# Altium schematic symbol library KSZ8081MLXCA.Schlib: 1 symbol
Pins are listed as number, name and electrical type; pins without a type are passive.

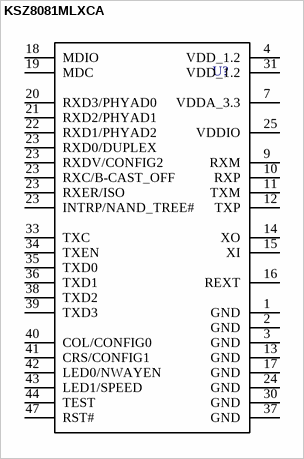
[diagram p0: symbol KSZ8081MLXCA]

## KSZ8081MLXCA
designator U?  (value not drawn)
Ethernet PHY 10/100 Microchip
pins: 1 GND, 2 GND, 3 GND, 4 VDD_1.2, 7 VDDA_3.3, 9 RXM, 10 RXP, 11 TXM, 12 TXP, 13 GND, 14 XO, 15 XI, 16 REXT, 17 GND, 18 MDIO, 19 MDC, 20 RXD3/PHYAD0, 21 RXD2/PHYAD1, 22 RXD1/PHYAD2, 23 RXD0/DUPLEX, 23 RXDV/CONFIG2, 23 RXC/B-CAST_OFF, 23 RXER/ISO, 23 INTRP/NAND_TREE#, 24 GND, 25 VDDIO, 30 GND, 31 VDD_1.2, 33 TXC, 34 TXEN, 35 TXD0, 36 TXD1, 37 GND, 38 TXD2, 39 TXD3, 40 COL/CONFIG0, 41 CRS/CONFIG1, 42 LED0/NWAYEN, 43 LED1/SPEED, 44 TEST, 47 RST#